# EAGLE library part TE-174975-2 (library synfinatic)
TE/AMP 174975-2 connector 16 pin connector
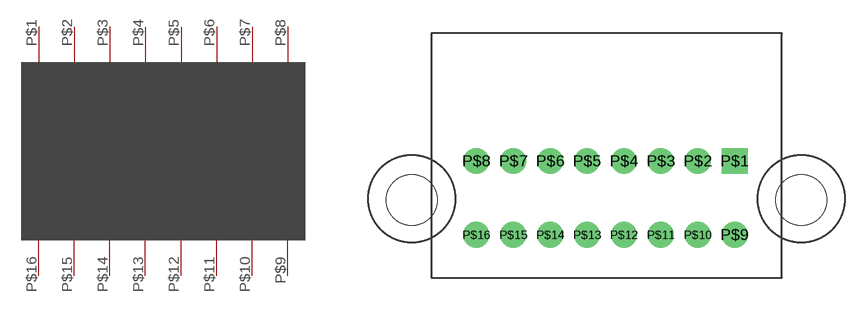
[diagram p6: symbol with the pads of TE-174975-2; footprint TE-174975-2]

Designator prefix -

## TE-174975-2  [TE-174975-2]
P$1  P$1
P$2  P$2
P$3  P$3
P$4  P$4
P$5  P$5
P$6  P$6
P$7  P$7
P$8  P$8
P$9  P$9
P$10  P$10
P$11  P$11
P$12  P$12
P$13  P$13
P$14  P$14
P$15  P$15
P$16  P$16

## Footprint TE-174975-2 (pad centres in mm)
drill 1.016 pad 1.778 square: P$1 20.87,8.03
drill 1.016 pad 1.778: P$2 18.33,8.03; P$3 15.79,8.03; P$4 13.25,8.03; P$5 10.71,8.03; P$6 8.17,8.03; P$7 5.63,8.03; P$8 3.09,8.03; P$9 20.87,2.95; P$10 18.33,2.95; P$11 15.79,2.95; P$12 13.25,2.95; P$13 10.71,2.95; P$14 8.17,2.95; P$15 5.63,2.95; P$16 3.09,2.95
hole 3.5 at -1.35,5.35
hole 3.5 at 25.45,5.35